# Altium footprint library DIOT-mini-backplane.PcbLib: 21 footprints (part 2 of 2)
Each footprint in its own frame and in the unit in brackets; x right, y up, seen from the top. Pads: shape width x height; smd on the part's side, far side on the other; paste and mask are expansions set on the pad; w line width, h text height; cw(c..) or ccw(c..) is an arc to the next point about the centre after c.
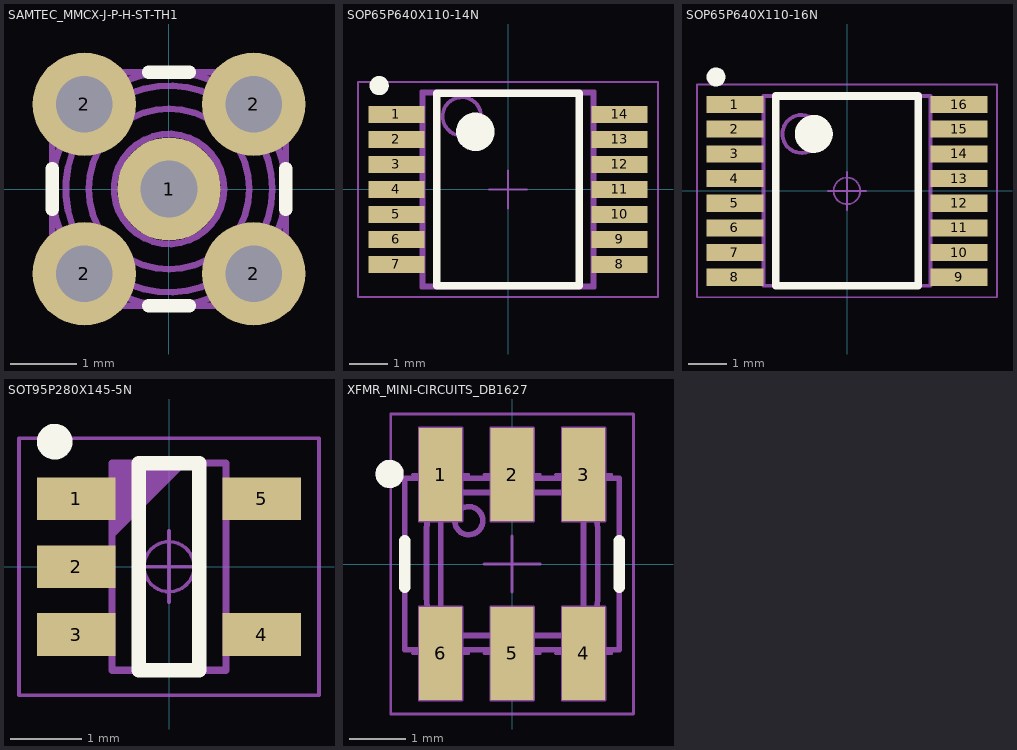
[diagram p1: the footprints below, top view; thin cyan lines are the x and y axes]

## SAMTEC_MMCX-J-P-H-ST-TH1 [mm]
pads (5):
  round 1.55 hole 0.85: 1(0,0) 2(-1.27,-1.27) 2(-1.27,1.27) 2(1.27,-1.27) 2(1.27,1.27)
Top Overlay:
  lines w0.2: -1.75,-0.308 -1.75,0.308 ; -0.308,-1.75 0.308,-1.75 ; -0.308,1.75 0.308,1.75 ; 1.75,-0.308 1.75,0.308
Mechanical 8:
  lines w0.1: -1.77,-1.27 -1.27,-1.27 ; -1.77,1.27 -1.27,1.27 ; -1.27,-1.77 -1.27,-1.27 ; -1.27,-0.77 -1.27,-1.27 ; -1.27,0.77 -1.27,1.27 ; -1.27,1.77 -1.27,1.27 ; -0.77,-1.27 -1.27,-1.27 ; -0.77,1.27 -1.27,1.27 ; -0.5,0 0,0 ; 0,-0.5 0,0 ; 0,0.5 0,0 ; 0.5,0 0,0 ; 0.77,-1.27 1.27,-1.27 ; 0.77,1.27 1.27,1.27 ; 1.27,-1.77 1.27,-1.27 ; 1.27,-0.77 1.27,-1.27 ; 1.27,0.77 1.27,1.27 ; 1.27,1.77 1.27,1.27 ; 1.77,-1.27 1.27,-1.27 ; 1.77,1.27 1.27,1.27
Mechanical 14:
  circle w0.1: c0,0 r1.205
  circle w0.1: c0,0 r0.825
  circle w0.1: c0.002,0 r0.251
  circle w0.1: c0,0 r1.75
  circle w0.1: c0,0 r1.549
  lines w0.1: -1.75,-1.414 ccw(c0,0) -1.414,-1.75 1.414,-1.75 ccw(c0,0) 1.75,-1.414 1.75,1.414 ccw(c0,0) 1.414,1.75 -1.414,1.75 ccw(c0,0) -1.75,1.414 -1.75,-1.414
3D body "SAMTEC_MMCX-J-P-H-ST-TH1.stp": height 4.35, standoff -3.05, extent -1.75,-1.75 1.75,1.75

## SOP65P640X110-14N [mm]
pads (14):
  rect 1.45x0.45 smd: 1(-2.9,1.95) 2(-2.9,1.3) 3(-2.9,0.65) 4(-2.9,0) 5(-2.9,-0.65) 6(-2.9,-1.3) 7(-2.9,-1.95) 8(2.9,-1.95) 9(2.9,-1.3) 10(2.9,-0.65) 11(2.9,0) 12(2.9,0.65) 13(2.9,1.3) 14(2.9,1.95)
Top Overlay:
  circle w0.25: c-3.35,2.7 r0.125
  circle w0.5: c-0.85,1.5 r0.25
  lines w0.2: -1.85,-2.5 -1.85,2.5 1.85,2.5 1.85,-2.5 -1.85,-2.5
Mechanical 14:
  circle w0.1: c-1.2,1.9 r0.5
  lines w0.1: -2.25,-2.55 2.25,-2.55 2.25,2.55 -2.25,2.55 -2.25,-2.55 ; -2.2,-2.5 -2.2,2.5 2.2,2.5 2.2,-2.5 -2.2,-2.5
Top Courtyard:
  lines w0.05: -0.5,0 0.5,0 ; 0,-0.5 0,0.5 ; -3.9,-2.8 -3.9,2.8 3.9,2.8 3.9,-2.8 -3.9,-2.8
3D body "SOP65P640X110-14N.stp": height 1.1, standoff 0, extent -3.121,-2.55 3.121,2.55

## SOP65P640X110-16N [mm]
pads (16):
  rect 1.5x0.45 smd: 1(-2.95,2.275) 2(-2.95,1.625) 3(-2.95,0.975) 4(-2.95,0.325) 5(-2.95,-0.325) 6(-2.95,-0.975) 7(-2.95,-1.625) 8(-2.95,-2.275) 9(2.95,-2.275) 10(2.95,-1.625) 11(2.95,-0.975) 12(2.95,-0.325) 13(2.95,0.325) 14(2.95,0.975) 15(2.95,1.625) 16(2.95,2.275)
Top Overlay:
  circle w0.5: c-0.875,1.5 r0.25
  circle w0.25: c-3.45,3 r0.125
  lines w0.2: -1.875,-2.5 1.875,-2.5 1.875,2.5 -1.875,2.5 -1.875,-2.5
Mechanical 14:
  circle w0.1: c-1.2,1.5 r0.5
  lines w0.1: -2.2,-2.5 2.2,-2.5 2.2,2.5 -2.2,2.5 -2.2,-2.5
Top Courtyard:
  circle w0.05: c0,0 r0.35
  lines w0.05: -0.5,0 0.5,0 ; 0,-0.5 0,0.5 ; -3.95,-2.8 3.95,-2.8 3.95,2.8 -3.95,2.8 -3.95,-2.8
3D body "SOP65P640X110-16N.stp": height 1.1, standoff 0, extent -3.121,-2.55 3.121,2.55

## SOT95P280X145-5N [mm]
pads (5):
  rect 1.1x0.6 smd: 1(-1.3,0.95) 2(-1.3,0) 3(-1.3,-0.95) 4(1.3,-0.95) 5(1.3,0.95)
Top Overlay:
  circle w0.25: c-1.6,1.75 r0.125
  lines w0.2: -0.425,-1.45 -0.425,1.45 0.425,1.45 0.425,-1.45 -0.425,-1.45
Mechanical 14:
  lines w0.1: -0.8,0.45 0.2,1.45 ; -0.8,0.55 0.1,1.45 ; -0.8,0.65 0,1.45 ; -0.8,0.75 -0.1,1.45 ; -0.8,0.85 -0.2,1.45 ; -0.8,0.95 -0.3,1.45 ; -0.8,1.05 -0.4,1.45 ; -0.8,1.15 -0.5,1.45 ; -0.8,1.25 -0.6,1.45 ; -0.8,1.35 -0.7,1.45 ; -0.8,-1.45 -0.8,1.45 0.8,1.45 0.8,-1.45 -0.8,-1.45
Top Courtyard:
  circle w0.05: c0,0 r0.35
  lines w0.05: -0.5,0 0.5,0 ; 0,-0.5 0,0.5 ; -2.1,-1.8 -2.1,1.8 2.1,1.8 2.1,-1.8 -2.1,-1.8
3D body "SOT95P280X145-5N.stp": height 1.45, standoff 0, extent -1.4,-1.5 1.4,1.5

## XFMR_MINI-CIRCUITS_DB1627 [mm]
pads (6):
  rect 0.76x1.65 smd: 1(-1.27,1.59) 2(0,1.59) 3(1.27,1.59) 4(1.27,-1.59) 5(0,-1.59) 6(-1.27,-1.59)
Top Overlay:
  circle w0.25: c-2.175,1.6 r0.125
  lines w0.2: -1.905,-0.415 -1.905,0.415 ; 1.905,-0.415 1.905,0.415
Mechanical 8:
  lines w0.05: -1.77,-1.59 -1.27,-1.59 ; -1.77,1.59 -1.27,1.59 ; -1.27,-2.09 -1.27,-1.59 ; -1.27,-1.09 -1.27,-1.59 ; -1.27,1.09 -1.27,1.59 ; -1.27,2.09 -1.27,1.59 ; -0.77,-1.59 -1.27,-1.59 ; -0.77,1.59 -1.27,1.59 ; -0.5,-1.59 0,-1.59 ; -0.5,0 0,0 ; -0.5,1.59 0,1.59 ; 0,-2.09 0,-1.59 ; 0,-1.09 0,-1.59 ; 0,-0.5 0,0 ; 0,0.5 0,0 ; 0,1.09 0,1.59 ; 0,2.09 0,1.59 ; 0.5,-1.59 0,-1.59 ; 0.5,0 0,0 ; 0.5,1.59 0,1.59 ; 0.77,-1.59 1.27,-1.59 ; 0.77,1.59 1.27,1.59 ; 1.27,-2.09 1.27,-1.59 ; 1.27,-1.09 1.27,-1.59 ; 1.27,1.09 1.27,1.59 ; 1.27,2.09 1.27,1.59 ; 1.77,-1.59 1.27,-1.59 ; 1.77,1.59 1.27,1.59 ; -1.65,-2.415 -1.65,-0.765 -0.89,-0.765 -0.89,-2.415 -1.65,-2.415 ; -1.65,0.765 -1.65,2.415 -0.89,2.415 -0.89,0.765 -1.65,0.765 ; -0.38,-2.415 -0.38,-0.765 0.38,-0.765 0.38,-2.415 -0.38,-2.415 ; -0.38,0.765 -0.38,2.415 0.38,2.415 0.38,0.765 -0.38,0.765 ; 0.89,-2.415 0.89,-0.765 1.65,-0.765 1.65,-2.415 0.89,-2.415 ; 0.89,0.765 0.89,2.415 1.65,2.415 1.65,0.765 0.89,0.765
Mechanical 14:
  circle w0.1: c-0.77,0.77 r0.25
  circle w0.25: c-2.175,1.6 r0.125
  lines w0.1: -1.625,-1.524 -1.905,-1.524 -1.905,1.524 -1.625,1.524 ; -1.52,-0.611 -1.52,0.62 cw(c-0.861,0.611) -1.27,1.128 ; -1.52,-0.592 ccw(c-0.861,-0.611) -1.27,-1.128 ; -1.386,-1.01 -1.625,-1.01 -1.625,-2.03 -0.915,-2.03 -0.915,-1.27 ; -1.386,1.01 -1.625,1.01 -1.625,2.03 -0.915,2.03 -0.915,1.27 ; -0.915,-1.524 -0.355,-1.524 ; -0.915,1.524 -0.355,1.524 ; -0.355,-1.27 -0.355,-2.03 0.355,-2.03 0.355,-1.27 ; -0.355,1.27 -0.355,2.03 0.355,2.03 0.355,1.27 ; 0.355,-1.524 0.915,-1.524 ; 0.355,1.524 0.915,1.524 ; 0.915,-1.27 0.915,-2.03 1.625,-2.03 1.625,-1.01 1.39,-1.01 ; 0.915,1.27 0.915,2.03 1.625,2.03 1.625,1.01 1.39,1.01 ; 1.27,-1.132 ccw(c0.87,-0.62) 1.52,-0.62 1.52,0.62 ccw(c0.87,0.62) 1.27,1.132 ; 1.625,-1.524 1.905,-1.524 1.905,1.524 1.625,1.524 ; -1.27,-1.27 -1.27,1.27 1.27,1.27 1.27,-1.27 -1.27,-1.27
Top Courtyard:
  lines w0.05: -2.155,-2.665 -2.155,2.665 2.155,2.665 2.155,-2.665 -2.155,-2.665
3D body "XFMR_MINI-CIRCUITS_DB1627.stp": height 4.06, standoff 0, extent -1.905,-2.03 1.905,2.03